# Altium footprint library PcbLib1.PcbLib: 4 footprints
Each footprint in its own frame and in the unit in brackets; x right, y up, seen from the top. Pads: shape width x height; smd on the part's side, far side on the other; paste and mask are expansions set on the pad; w line width, h text height; cw(c..) or ccw(c..) is an arc to the next point about the centre after c.
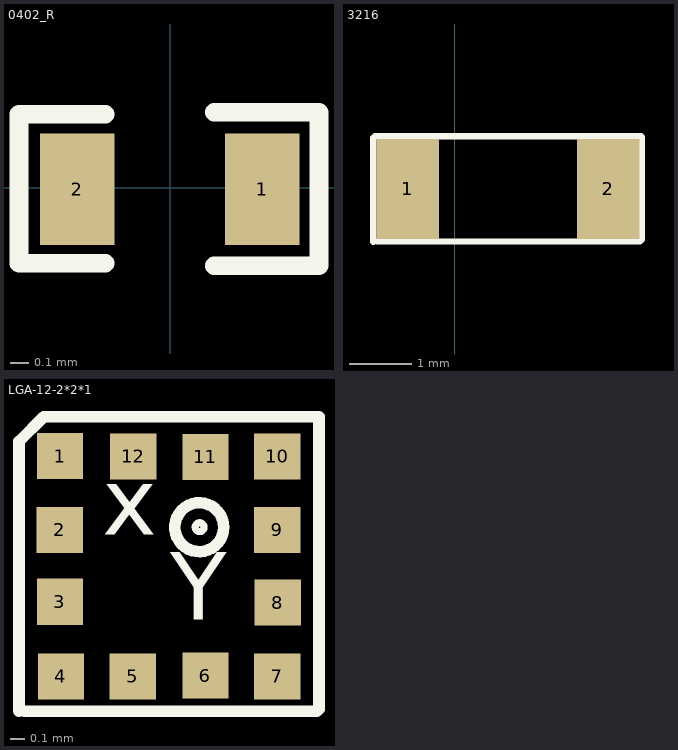
[diagram p0: the footprints below, top view; thin cyan lines are the x and y axes]

## 0402_R [mm]
pads (2):
  rect 0.4x0.6 smd: 1(0.494,-0.008) 2(-0.499,-0.009)
Top Overlay:
  lines w0.1: -0.348,-0.406 -0.811,-0.406 -0.811,0.395 -0.348,0.395 ; 0.237,-0.418 0.8,-0.418 0.8,0.404 0.237,0.404

## 3216 [mm]
pads (2):
  rect 1x1.6 smd: 1(-0.752,-3.307) 2(2.45,-3.307)
Top Overlay:
  lines w0.1: -1.306,-4.154 -1.306,-2.49 -1.28,-2.464 2.977,-2.464 2.992,-2.48 2.992,-4.117 2.961,-4.148 -1.254,-4.148

## LGA-12-2*2*1 [mm]
pads (12):
  rect 0.32x0.32 smd: 1(22.857,-2.468) 2(22.854,-2.98) 3(22.855,-3.478) 4(22.862,-3.996) 5(23.36,-3.996) 6(23.863,-3.99) 7(24.361,-3.996) 8(24.364,-3.484) 9(24.361,-2.98) 10(24.361,-2.471) 11(23.863,-2.474) 12(23.363,-2.471)
Top Overlay:
  circle w0.05: c23.823,-2.962 r0.03
  circle w0.08: c23.821,-2.962 r0.169
  lines w0.08: 22.572,-4.235 22.572,-2.367 22.743,-2.196 24.65,-2.196 24.65,-4.221 24.635,-4.237 22.613,-4.237
  text "Y" at 23.621,-3.755 h0.8
  text "x" at 23.148,-3.167 h0.8

## PCBComponent_1 [mm]